# Altium footprint library 2.54mm_1x6_header_horizontal_male.PcbLib: 1 footprints
Each footprint in its own frame and in the unit in brackets; x right, y up, seen from the top. Pads: shape width x height; smd on the part's side, far side on the other; paste and mask are expansions set on the pad; w line width, h text height; cw(c..) or ccw(c..) is an arc to the next point about the centre after c.
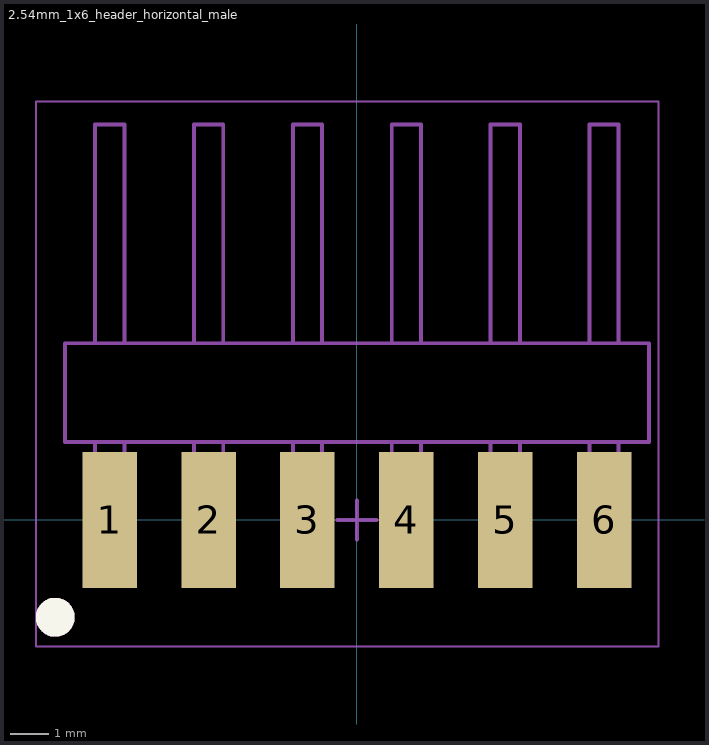
[diagram p0: the footprint, top view; thin cyan lines are the x and y axes]

## 2.54mm_1x6_header_horizontal_male [mm]
pads (6):
  rect 1.4x3.5 smd: 1(-6.35,0) 2(-3.81,0) 3(-1.27,0) 4(1.27,0) 5(3.81,0) 6(6.35,0)
Top Overlay:
  circle w0.5: c-7.75,-2.5 r0.25
Mechanical 1:
  circle w0.5: c-7.75,-2.5 r0.25
  lines w0.1: -6.725,2 -6.725,-1.27 -5.975,-1.27 -5.975,2 ; -6.725,4.54 -6.725,10.16 -5.975,10.16 -5.975,4.54 ; -4.185,2 -4.185,-1.27 -3.435,-1.27 -3.435,2 ; -4.185,4.54 -4.185,10.16 -3.435,10.16 -3.435,4.54 ; -1.645,2 -1.645,-1.27 -0.895,-1.27 -0.895,2 ; -1.645,4.54 -1.645,10.16 -0.895,10.16 -0.895,4.54 ; 0.895,2 0.895,-1.27 1.645,-1.27 1.645,2 ; 0.895,4.54 0.895,10.16 1.645,10.16 1.645,4.54 ; 3.435,2 3.435,-1.27 4.185,-1.27 4.185,2 ; 3.435,4.54 3.435,10.16 4.185,10.16 4.185,4.54 ; 5.975,2 5.975,-1.27 6.725,-1.27 6.725,2 ; 5.975,4.54 5.975,10.16 6.725,10.16 6.725,4.54 ; -7.5,2 7.5,2 7.5,4.54 -7.5,4.54 -7.5,2
  text ".Designator" at -3.125,3.092 h0.65
Mechanical 2:
  lines w0.05: -8.25,-3.25 -8.25,10.75 7.75,10.75 7.75,-3.25 -8.25,-3.25
  lines w0.1: -0.5,0 0.5,0 ; 0,-0.5 0,0.5
3D body "61300611121_Download_STP_61300611121_rev1.stp": height 1.67, standoff -0.87, extent -7.62,-1.02 7.62,10.52